# Altium footprint library TQFP-100_12x12x04P.PcbLib: 1 footprints
Each footprint in its own frame and in the unit in brackets; x right, y up, seen from the top. Pads: shape width x height; smd on the part's side, far side on the other; paste and mask are expansions set on the pad; w line width, h text height; cw(c..) or ccw(c..) is an arc to the next point about the centre after c.
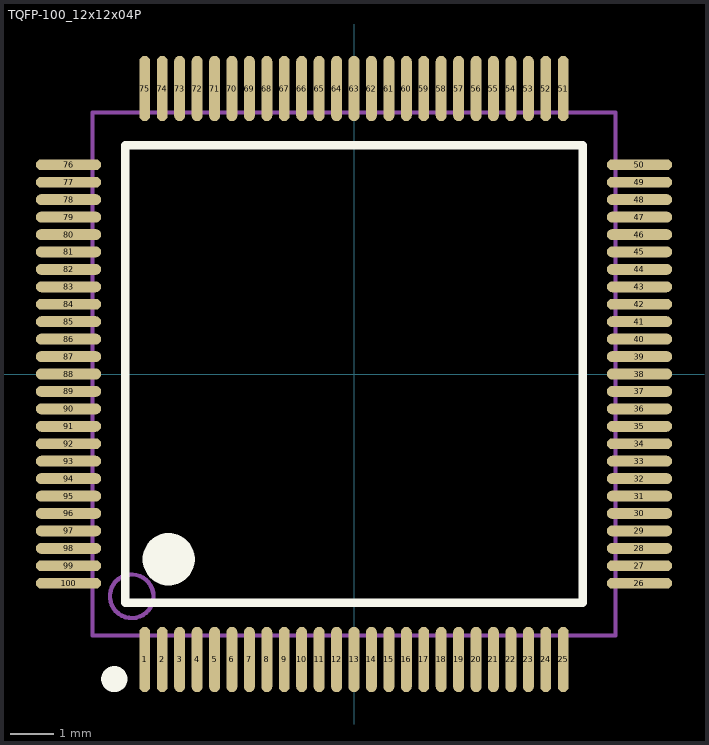
[diagram p0: the footprint, top view; thin cyan lines are the x and y axes]

## TQFP-100_12x12x04P [mm]
pads (100):
  oval 0.25x1.5 smd mask+0.051: 1(-4.8,-6.55) 2(-4.4,-6.55) 3(-4,-6.55) 4(-3.6,-6.55) 5(-3.2,-6.55) 6(-2.8,-6.55) 7(-2.4,-6.55) 8(-2,-6.55) 9(-1.6,-6.55) 10(-1.2,-6.55) 11(-0.8,-6.55) 12(-0.4,-6.55) 13(0,-6.55) 14(0.4,-6.55) 15(0.8,-6.55) 16(1.2,-6.55) 17(1.6,-6.55) 18(2,-6.55) 19(2.4,-6.55) 20(2.8,-6.55) 21(3.2,-6.55) 22(3.6,-6.55) 23(4,-6.55) 24(4.4,-6.55) 25(4.8,-6.55) 51(4.8,6.55) 52(4.4,6.55) 53(4,6.55) 54(3.6,6.55) 55(3.2,6.55) 56(2.8,6.55) 57(2.4,6.55) 58(2,6.55) 59(1.6,6.55) 60(1.2,6.55) 61(0.8,6.55) 62(0.4,6.55) 63(0,6.55) 64(-0.4,6.55) 65(-0.8,6.55) 66(-1.2,6.55) 67(-1.6,6.55) 68(-2,6.55) 69(-2.4,6.55) 70(-2.8,6.55) 71(-3.2,6.55) 72(-3.6,6.55) 73(-4,6.55) 74(-4.4,6.55) 75(-4.8,6.55)
  oval 1.5x0.25 smd mask+0.051: 26(6.55,-4.8) 27(6.55,-4.4) 28(6.55,-4) 29(6.55,-3.6) 30(6.55,-3.2) 31(6.55,-2.8) 32(6.55,-2.4) 33(6.55,-2) 34(6.55,-1.6) 35(6.55,-1.2) 36(6.55,-0.8) 37(6.55,-0.4) 38(6.55,0) 39(6.55,0.4) 40(6.55,0.8) 41(6.55,1.2) 42(6.55,1.6) 43(6.55,2) 44(6.55,2.4) 45(6.55,2.8) 46(6.55,3.2) 47(6.55,3.6) 48(6.55,4) 49(6.55,4.4) 50(6.55,4.8) 76(-6.55,4.8) 77(-6.55,4.4) 78(-6.55,4) 79(-6.55,3.6) 80(-6.55,3.2) 81(-6.55,2.8) 82(-6.55,2.4) 83(-6.55,2) 84(-6.55,1.6) 85(-6.55,1.2) 86(-6.55,0.8) 87(-6.55,0.4) 88(-6.55,0) 89(-6.55,-0.4) 90(-6.55,-0.8) 91(-6.55,-1.2) 92(-6.55,-1.6) 93(-6.55,-2) 94(-6.55,-2.4) 95(-6.55,-2.8) 96(-6.55,-3.2) 97(-6.55,-3.6) 98(-6.55,-4) 99(-6.55,-4.4) 100(-6.55,-4.8)
Top Overlay:
  circle w0.6: c-4.25,-4.25 r0.3
  circle w0.3: c-5.5,-7 r0.15
  lines w0.2: -5.25,-5.25 5.25,-5.25 5.25,5.25 -5.25,5.25 -5.25,-5.25
Mechanical 13:
  circle w0.1: c-5.1,-5.1 r0.5
  lines w0.1: -6,-6 6,-6 6,6 -6,6 -6,-6